# Altium footprint library UbiWatch_PcbLib.PcbLib: 22 footprints (part 2 of 2)
Each footprint in its own frame and in the unit in brackets; x right, y up, seen from the top. Pads: shape width x height; smd on the part's side, far side on the other; paste and mask are expansions set on the pad; w line width, h text height; cw(c..) or ccw(c..) is an arc to the next point about the centre after c.
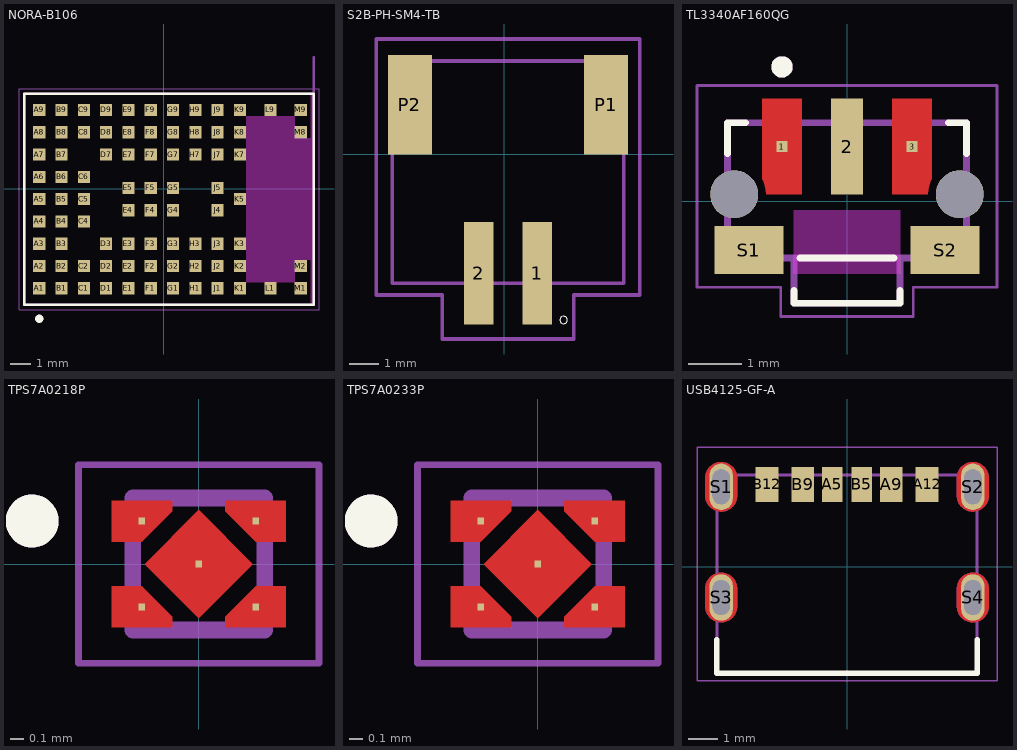
[diagram p1: the footprints below, top view; thin cyan lines are the x and y axes]

## NORA-B106 [mm]
pads (82):
  rect 0.6x0.6 smd paste+0 mask+0.102: A1(-6.146,-4.908) A2(-6.146,-3.808) A3(-6.146,-2.708) A4(-6.146,-1.608) A5(-6.146,-0.508) A6(-6.146,0.592) A7(-6.146,1.692) A8(-6.146,2.792) A9(-6.146,3.892) B1(-5.046,-4.908) B2(-5.046,-3.808) B3(-5.046,-2.708) B4(-5.046,-1.608) B5(-5.046,-0.508) B6(-5.046,0.592) B7(-5.046,1.692) B8(-5.046,2.792) B9(-5.046,3.892) C1(-3.946,-4.908) C2(-3.946,-3.808) C4(-3.946,-1.608) C5(-3.946,-0.508) C6(-3.946,0.592) C8(-3.946,2.792) C9(-3.946,3.892) D1(-2.846,-4.908) D2(-2.846,-3.808) D3(-2.846,-2.708) D7(-2.846,1.692) D8(-2.846,2.792) D9(-2.846,3.892) E1(-1.746,-4.908) E2(-1.746,-3.808) E3(-1.746,-2.708) E4(-1.746,-1.058) E5(-1.746,0.042) E7(-1.746,1.692) E8(-1.746,2.792) E9(-1.746,3.892) F1(-0.646,-4.908) F2(-0.646,-3.808) F3(-0.646,-2.708) F4(-0.646,-1.058) F5(-0.646,0.042) F7(-0.646,1.692) F8(-0.646,2.792) F9(-0.646,3.892) G1(0.454,-4.908) G2(0.454,-3.808) G3(0.454,-2.708) G4(0.454,-1.058) G5(0.454,0.042) G7(0.454,1.692) G8(0.454,2.792) G9(0.454,3.892) H1(1.554,-4.908) H2(1.554,-3.808) H3(1.554,-2.708) H7(1.554,1.692) H8(1.554,2.792) H9(1.554,3.892) J1(2.654,-4.908) J2(2.654,-3.808) J3(2.654,-2.708) J4(2.654,-1.058) J5(2.654,0.042) J7(2.654,1.692) J8(2.654,2.792) J9(2.654,3.892) K1(3.754,-4.908) K2(3.754,-3.808) K3(3.754,-2.708) K5(3.754,-0.508) K7(3.754,1.692) K8(3.754,2.792) K9(3.754,3.892) L1(5.254,-4.908) L9(5.254,3.892) M1(6.754,-4.908) M2(6.754,-3.808) M8(6.754,2.792) M9(6.754,3.892)
Top Overlay:
  circle w0.2: c-6.146,-6.408 r0.1
  lines w0.127: -6.896,-5.708 -6.896,4.692 7.404,4.692 7.404,-5.708 -6.896,-5.708
Keep-Out Layer:
  region: 7.404,-5.708 7.254,-5.708 7.254,-3.508 6.454,-3.508 6.454,-4.608 4.054,-4.608 4.054,3.592 6.454,3.592 6.454,2.492 7.254,2.492 7.254,4.692 7.404,4.692
  region: 7.404,-5.708 7.254,-5.708 7.254,-3.508 6.454,-3.508 6.454,-4.608 4.054,-4.608 4.054,3.592 6.454,3.592 6.454,2.492 7.254,2.492 7.254,4.692 7.404,4.692
Mechanical 13:
  circle w0.2: c-6.146,-6.408 r0.1
  lines w0.127: 7.404,6.492 7.404,4.692 ; 7.404,4.692 -6.896,4.692 -6.896,-5.708 7.404,-5.708 7.404,4.692
  text "PCB Edge" at 7.104,5.492 h0.61
Mechanical 15:
  lines w0.05: -7.146,-5.958 -7.146,4.942 7.654,4.942 7.654,-5.958 -7.146,-5.958
3D body "step_temp.STEP": height 1.8, standoff 0, extent -6.896,-5.708 7.404,4.692

## S2B-PH-SM4-TB [mm]
pads (4):
  rect 1x3.5 smd: 1(1.127,-4.064) 2(-0.873,-4.064)
  rect 1.5x3.4 smd: P1(3.477,1.686) P2(-3.223,1.686)
Top Overlay:
  circle w0: c2.027,-5.664 r0.127
Mechanical 13:
  lines w0.127: -3.823,-4.414 4.077,-4.414 4.077,3.186 -3.823,3.186 -3.823,-4.414
Mechanical 15:
  lines w0.127: -4.373,-4.814 -2.123,-4.814 -2.123,-6.314 2.377,-6.314 2.377,-4.814 4.627,-4.814 4.627,3.936 -4.373,3.936 -4.373,-4.814
3D body "step_temp.STEP": height 5.5, standoff -0.1, extent -3.823,-4.064 4.077,4.536

## TL3340AF160QG [mm]
pads (7):
  rect 0.2x0.2 smd paste-1 mask+0: 1(-1.225,1.027) 3(1.225,1.027)
  rect 0.6x1.8 smd: 2(0,1.027)
  rect 1.3x0.9 smd: S1(-1.85,-0.923) S2(1.85,-0.923)
  round 0.9 hole 0.9 unplated: ""(-2.125,0.127) ""(2.125,0.127)
Top Layer:
  region: -0.85,0.127 -1.525,0.127 -1.525,0.136 -1.525,0.154 -1.526,0.172 -1.529,0.19 -1.53,0.198 -1.531,0.207 -1.533,0.225 -1.536,0.243 -1.54,0.261 -1.543,0.27 -1.545,0.28 -1.551,0.302 -1.557,0.323 -1.565,0.344 -1.569,0.354 -1.572,0.363 -1.579,0.379 -1.587,0.395 -1.595,0.41 -1.6,0.417 -1.6,0.427 -1.6,1.927 -0.85,1.927
  region: 1.6,0.427 1.6,0.417 1.595,0.41 1.587,0.395 1.579,0.379 1.572,0.363 1.569,0.354 1.565,0.344 1.557,0.323 1.551,0.302 1.545,0.28 1.543,0.27 1.54,0.261 1.536,0.243 1.533,0.225 1.531,0.207 1.53,0.198 1.529,0.19 1.526,0.172 1.525,0.154 1.525,0.136 1.525,0.127 0.85,0.127 0.85,1.927 1.6,1.927
Top Overlay:
  circle w0.2: c-1.225,2.527 r0.1
  lines w0.127: -2.25,0.891 -2.25,1.477 -1.913,1.477 ; -1,-1.686 -1,-1.923 1,-1.923 1,-1.686 ; -0.887,-1.073 0.887,-1.073 ; 1.913,1.477 2.25,1.477 2.25,0.891
Top Paste:
  region: -0.85,0.127 -1.525,0.127 -1.525,0.136 -1.525,0.154 -1.526,0.172 -1.529,0.19 -1.53,0.198 -1.531,0.207 -1.533,0.225 -1.536,0.243 -1.54,0.261 -1.543,0.27 -1.545,0.28 -1.551,0.302 -1.557,0.323 -1.565,0.344 -1.569,0.354 -1.572,0.363 -1.579,0.379 -1.587,0.395 -1.595,0.41 -1.6,0.417 -1.6,0.427 -1.6,1.927 -0.85,1.927
  region: 1.6,0.427 1.6,0.417 1.595,0.41 1.587,0.395 1.579,0.379 1.572,0.363 1.569,0.354 1.565,0.344 1.557,0.323 1.551,0.302 1.545,0.28 1.543,0.27 1.54,0.261 1.536,0.243 1.533,0.225 1.531,0.207 1.53,0.198 1.529,0.19 1.526,0.172 1.525,0.154 1.525,0.136 1.525,0.127 0.85,0.127 0.85,1.927 1.6,1.927
Top Solder:
  region: 1.7,0.55 1.677,0.524 1.635,0.469 1.599,0.409 1.569,0.346 1.556,0.314 1.553,0.305 1.549,0.287 1.544,0.269 1.54,0.25 1.539,0.241 1.537,0.232 1.534,0.213 1.531,0.194 1.529,0.175 1.528,0.166 1.527,0.148 1.527,0.114 1.528,0.079 1.531,0.044 1.533,0.027 0.75,0.027 0.75,2.027 1.7,2.027
  region: -0.75,0.027 -1.533,0.027 -1.531,0.044 -1.528,0.079 -1.527,0.114 -1.527,0.148 -1.528,0.166 -1.529,0.175 -1.531,0.194 -1.534,0.213 -1.537,0.232 -1.539,0.241 -1.54,0.25 -1.544,0.269 -1.549,0.287 -1.553,0.305 -1.556,0.314 -1.569,0.346 -1.599,0.409 -1.635,0.469 -1.677,0.524 -1.7,0.55 -1.7,2.027 -0.75,2.027
Keep-Out Layer:
  region: 1,-1.373 -1,-1.373 -1,-0.173 1,-0.173
Mechanical 13:
  circle w0.2: c-1.225,2.527 r0.1
  lines w0.127: -1,-1.073 -2.25,-1.073 -2.25,1.477 2.25,1.477 2.25,-1.073 1,-1.073 ; -1,-1.073 1,-1.073 ; -1,-1.073 -1,-1.923 1,-1.923 1,-1.073
Mechanical 15:
  lines w0.05: -2.825,-1.623 -1.25,-1.623 -1.25,-2.173 1.25,-2.173 1.25,-1.623 2.825,-1.623 2.825,2.177 -2.825,2.177 -2.825,-1.623
3D body "step_temp.STEP": height 3.3, standoff -0.46, extent -2.25,-1.923 2.25,1.742

## TPS7A0218P [mm]
pads (5):
  rect 0.05x0.05 smd paste-1 mask+0: 1(-0.43,0.325) 2(-0.43,-0.325) 3(0.43,-0.325) 4(0.43,0.325) 5(0,0)
Top Layer:
  region: -0.2,0.4 -0.43,0.17 -0.66,0.17 -0.66,0.48 -0.2,0.48
  region: 0.66,-0.48 0.2,-0.48 0.2,-0.4 0.43,-0.17 0.66,-0.17
  region: 0.66,0.17 0.43,0.17 0.2,0.4 0.2,0.48 0.66,0.48
  region: -0.2,-0.4 -0.2,-0.48 -0.66,-0.48 -0.66,-0.17 -0.43,-0.17
  region: 0.41,0 0,-0.41 -0.41,0 0,0.41
Top Overlay:
  circle w0.2: c-1.26,0.325 r0.1
Top Paste:
  region: 0.65,0.22 0.43,0.22 0.25,0.4 0.25,0.43 0.65,0.43
  region: 0.65,-0.43 0.25,-0.43 0.25,-0.4 0.43,-0.22 0.65,-0.22
  region: -0.25,0.4 -0.43,0.22 -0.65,0.22 -0.65,0.43 -0.25,0.43
  region: -0.25,-0.4 -0.25,-0.43 -0.65,-0.43 -0.65,-0.22 -0.43,-0.22
  region: 0.318,0 0,-0.318 -0.318,0 0,0.318
Top Solder:
  region: -0.25,0.4 -0.43,0.22 -0.61,0.22 -0.61,0.43 -0.25,0.43
  region: 0.61,-0.43 0.25,-0.43 0.25,-0.4 0.43,-0.22 0.61,-0.22
  region: 0.61,0.22 0.43,0.22 0.25,0.4 0.25,0.43 0.61,0.43
  region: -0.25,-0.4 -0.25,-0.43 -0.61,-0.43 -0.61,-0.22 -0.43,-0.22
  region: 0.339,0 0,-0.339 -0.339,0 0,0.339
Mechanical 13:
  circle w0.2: c-1.26,0.325 r0.1
  lines w0.127: -0.5,-0.5 0.5,-0.5 0.5,0.5 -0.5,0.5 -0.5,-0.5
Mechanical 15:
  lines w0.05: -0.91,-0.75 0.91,-0.75 0.91,0.75 -0.91,0.75 -0.91,-0.75
3D body "step_temp.STEP": height 0.4, standoff 0, extent -0.5,-0.5 0.5,0.5

## TPS7A0233P [mm]
pads (5):
  rect 0.05x0.05 smd paste-1 mask+0: 1(-0.43,0.325) 2(-0.43,-0.325) 3(0.43,-0.325) 4(0.43,0.325) 5(0,0)
Top Layer:
  region: -0.2,0.4 -0.43,0.17 -0.66,0.17 -0.66,0.48 -0.2,0.48
  region: 0.66,-0.48 0.2,-0.48 0.2,-0.4 0.43,-0.17 0.66,-0.17
  region: 0.66,0.17 0.43,0.17 0.2,0.4 0.2,0.48 0.66,0.48
  region: -0.2,-0.4 -0.2,-0.48 -0.66,-0.48 -0.66,-0.17 -0.43,-0.17
  region: 0.41,0 0,-0.41 -0.41,0 0,0.41
Top Overlay:
  circle w0.2: c-1.26,0.325 r0.1
Top Paste:
  region: 0.65,0.22 0.43,0.22 0.25,0.4 0.25,0.43 0.65,0.43
  region: 0.65,-0.43 0.25,-0.43 0.25,-0.4 0.43,-0.22 0.65,-0.22
  region: -0.25,0.4 -0.43,0.22 -0.65,0.22 -0.65,0.43 -0.25,0.43
  region: -0.25,-0.4 -0.25,-0.43 -0.65,-0.43 -0.65,-0.22 -0.43,-0.22
  region: 0.318,0 0,-0.318 -0.318,0 0,0.318
Top Solder:
  region: -0.25,0.4 -0.43,0.22 -0.61,0.22 -0.61,0.43 -0.25,0.43
  region: 0.61,-0.43 0.25,-0.43 0.25,-0.4 0.43,-0.22 0.61,-0.22
  region: 0.61,0.22 0.43,0.22 0.25,0.4 0.25,0.43 0.61,0.43
  region: -0.25,-0.4 -0.25,-0.43 -0.61,-0.43 -0.61,-0.22 -0.43,-0.22
  region: 0.339,0 0,-0.339 -0.339,0 0,0.339
Mechanical 13:
  circle w0.2: c-1.26,0.325 r0.1
  lines w0.127: -0.5,-0.5 0.5,-0.5 0.5,0.5 -0.5,0.5 -0.5,-0.5
Mechanical 15:
  lines w0.05: -0.91,-0.75 0.91,-0.75 0.91,0.75 -0.91,0.75 -0.91,-0.75
3D body "step_temp.STEP": height 0.4, standoff 0, extent -0.5,-0.5 0.5,0.5

## USB4125-GF-A [mm]
pads (10):
  rect 0.7x1.2 smd: A5(-0.5,2.826) B5(0.5,2.826)
  rect 0.76x1.2 smd: A9(1.52,2.826) B9(-1.52,2.826)
  rect 0.8x1.2 smd: A12(2.75,2.826) B12(-2.75,2.826)
  oval 0.8x1.6 hole 0.6 slot 1.2 at 90 deg mask+0: S1(-4.32,2.746) S2(4.32,2.746) S3(-4.32,-1.054) S4(4.32,-1.054)
Top Layer:
  region: -4.291,-0.205 -4.263,-0.207 -4.234,-0.211 -4.206,-0.216 -4.178,-0.223 -4.15,-0.231 -4.123,-0.241 -4.096,-0.252 -4.07,-0.264 -4.045,-0.278 -4.02,-0.293 -3.997,-0.309 -3.974,-0.327 -3.952,-0.345 -3.931,-0.365 -3.911,-0.386 -3.893,-0.408 -3.875,-0.431 -3.859,-0.454 -3.844,-0.479 -3.83,-0.504 -3.818,-0.53 -3.807,-0.557 -3.797,-0.584 -3.789,-0.612 -3.782,-0.64 -3.777,-0.668 -3.773,-0.697 -3.771,-0.725 -3.77,-0.754 -3.77,-1.354 -3.771,-1.383 -3.773,-1.411 -3.777,-1.44 -3.782,-1.468 -3.789,-1.496 -3.797,-1.524 -3.807,-1.551 -3.818,-1.578 -3.83,-1.604 -3.844,-1.629 -3.859,-1.654 -3.875,-1.677 -3.893,-1.7 -3.911,-1.722 -3.931,-1.743 -3.952,-1.763 -3.974,-1.781 -3.997,-1.799 -4.02,-1.815 -4.045,-1.83 -4.07,-1.844 -4.096,-1.856 -4.123,-1.867 -4.15,-1.877 -4.178,-1.885 -4.206,-1.892 -4.234,-1.897 -4.263,-1.901 -4.291,-1.903 -4.32,-1.904 -4.349,-1.903 -4.377,-1.901 -4.406,-1.897 -4.434,-1.892 -4.462,-1.885 -4.49,-1.877 -4.517,-1.867 -4.544,-1.856 -4.57,-1.844 -4.595,-1.83 -4.62,-1.815 -4.643,-1.799 -4.666,-1.781 -4.688,-1.763 -4.709,-1.743 -4.729,-1.722 -4.747,-1.7 -4.765,-1.677 -4.781,-1.654 -4.796,-1.629 -4.81,-1.604 -4.822,-1.578 -4.833,-1.551 -4.843,-1.524 -4.851,-1.496 -4.858,-1.468 -4.863,-1.44 -4.867,-1.411 -4.869,-1.383 -4.87,-1.354 -4.87,-0.754 -4.869,-0.725 -4.867,-0.697 -4.863,-0.668 -4.858,-0.64 -4.851,-0.612 -4.843,-0.584 -4.833,-0.557 -4.822,-0.53 -4.81,-0.504 -4.796,-0.479 -4.781,-0.454 -4.765,-0.431 -4.747,-0.408 -4.729,-0.386 -4.709,-0.365 -4.688,-0.345 -4.666,-0.327 -4.643,-0.309 -4.62,-0.293 -4.595,-0.278 -4.57,-0.264 -4.544,-0.252 -4.517,-0.241 -4.49,-0.231 -4.462,-0.223 -4.434,-0.216 -4.406,-0.211 -4.377,-0.207 -4.349,-0.205 -4.32,-0.204
  region: 4.349,-0.205 4.377,-0.207 4.406,-0.211 4.434,-0.216 4.462,-0.223 4.49,-0.231 4.517,-0.241 4.544,-0.252 4.57,-0.264 4.595,-0.278 4.62,-0.293 4.643,-0.309 4.666,-0.327 4.688,-0.345 4.709,-0.365 4.729,-0.386 4.747,-0.408 4.765,-0.431 4.781,-0.454 4.796,-0.479 4.81,-0.504 4.822,-0.53 4.833,-0.557 4.843,-0.584 4.851,-0.612 4.858,-0.64 4.863,-0.668 4.867,-0.697 4.869,-0.725 4.87,-0.754 4.87,-1.354 4.869,-1.383 4.867,-1.411 4.863,-1.44 4.858,-1.468 4.851,-1.496 4.843,-1.524 4.833,-1.551 4.822,-1.578 4.81,-1.604 4.796,-1.629 4.781,-1.654 4.765,-1.677 4.747,-1.7 4.729,-1.722 4.709,-1.743 4.688,-1.763 4.666,-1.781 4.643,-1.799 4.62,-1.815 4.595,-1.83 4.57,-1.844 4.544,-1.856 4.517,-1.867 4.49,-1.877 4.462,-1.885 4.434,-1.892 4.406,-1.897 4.377,-1.901 4.349,-1.903 4.32,-1.904 4.291,-1.903 4.263,-1.901 4.234,-1.897 4.206,-1.892 4.178,-1.885 4.15,-1.877 4.123,-1.867 4.096,-1.856 4.07,-1.844 4.045,-1.83 4.02,-1.815 3.997,-1.799 3.974,-1.781 3.952,-1.763 3.931,-1.743 3.911,-1.722 3.893,-1.7 3.875,-1.677 3.859,-1.654 3.844,-1.629 3.83,-1.604 3.818,-1.578 3.807,-1.551 3.797,-1.524 3.789,-1.496 3.782,-1.468 3.777,-1.44 3.773,-1.411 3.771,-1.383 3.77,-1.354 3.77,-0.754 3.771,-0.725 3.773,-0.697 3.777,-0.668 3.782,-0.64 3.789,-0.612 3.797,-0.584 3.807,-0.557 3.818,-0.53 3.83,-0.504 3.844,-0.479 3.859,-0.454 3.875,-0.431 3.893,-0.408 3.911,-0.386 3.931,-0.365 3.952,-0.345 3.974,-0.327 3.997,-0.309 4.02,-0.293 4.045,-0.278 4.07,-0.264 4.096,-0.252 4.123,-0.241 4.15,-0.231 4.178,-0.223 4.206,-0.216 4.234,-0.211 4.263,-0.207 4.291,-0.205 4.32,-0.204
  region: -4.291,3.595 -4.263,3.593 -4.234,3.589 -4.206,3.584 -4.178,3.577 -4.15,3.569 -4.123,3.559 -4.096,3.548 -4.07,3.536 -4.045,3.522 -4.02,3.507 -3.997,3.491 -3.974,3.473 -3.952,3.455 -3.931,3.435 -3.911,3.414 -3.893,3.392 -3.875,3.369 -3.859,3.346 -3.844,3.321 -3.83,3.296 -3.818,3.27 -3.807,3.243 -3.797,3.216 -3.789,3.188 -3.782,3.16 -3.777,3.132 -3.773,3.103 -3.771,3.075 -3.77,3.046 -3.77,2.446 -3.771,2.417 -3.773,2.389 -3.777,2.36 -3.782,2.332 -3.789,2.304 -3.797,2.276 -3.807,2.249 -3.818,2.222 -3.83,2.196 -3.844,2.171 -3.859,2.146 -3.875,2.123 -3.893,2.1 -3.911,2.078 -3.931,2.057 -3.952,2.037 -3.974,2.019 -3.997,2.001 -4.02,1.985 -4.045,1.97 -4.07,1.956 -4.096,1.944 -4.123,1.933 -4.15,1.923 -4.178,1.915 -4.206,1.908 -4.234,1.903 -4.263,1.899 -4.291,1.897 -4.32,1.896 -4.349,1.897 -4.377,1.899 -4.406,1.903 -4.434,1.908 -4.462,1.915 -4.49,1.923 -4.517,1.933 -4.544,1.944 -4.57,1.956 -4.595,1.97 -4.62,1.985 -4.643,2.001 -4.666,2.019 -4.688,2.037 -4.709,2.057 -4.729,2.078 -4.747,2.1 -4.765,2.123 -4.781,2.146 -4.796,2.171 -4.81,2.196 -4.822,2.222 -4.833,2.249 -4.843,2.276 -4.851,2.304 -4.858,2.332 -4.863,2.36 -4.867,2.389 -4.869,2.417 -4.87,2.446 -4.87,3.046 -4.869,3.075 -4.867,3.103 -4.863,3.132 -4.858,3.16 -4.851,3.188 -4.843,3.216 -4.833,3.243 -4.822,3.27 -4.81,3.296 -4.796,3.321 -4.781,3.346 -4.765,3.369 -4.747,3.392 -4.729,3.414 -4.709,3.435 -4.688,3.455 -4.666,3.473 -4.643,3.491 -4.62,3.507 -4.595,3.522 -4.57,3.536 -4.544,3.548 -4.517,3.559 -4.49,3.569 -4.462,3.577 -4.434,3.584 -4.406,3.589 -4.377,3.593 -4.349,3.595 -4.32,3.596
  region: 4.349,3.595 4.377,3.593 4.406,3.589 4.434,3.584 4.462,3.577 4.49,3.569 4.517,3.559 4.544,3.548 4.57,3.536 4.595,3.522 4.62,3.507 4.643,3.491 4.666,3.473 4.688,3.455 4.709,3.435 4.729,3.414 4.747,3.392 4.765,3.369 4.781,3.346 4.796,3.321 4.81,3.296 4.822,3.27 4.833,3.243 4.843,3.216 4.851,3.188 4.858,3.16 4.863,3.132 4.867,3.103 4.869,3.075 4.87,3.046 4.87,2.446 4.869,2.417 4.867,2.389 4.863,2.36 4.858,2.332 4.851,2.304 4.843,2.276 4.833,2.249 4.822,2.222 4.81,2.196 4.796,2.171 4.781,2.146 4.765,2.123 4.747,2.1 4.729,2.078 4.709,2.057 4.688,2.037 4.666,2.019 4.643,2.001 4.62,1.985 4.595,1.97 4.57,1.956 4.544,1.944 4.517,1.933 4.49,1.923 4.462,1.915 4.434,1.908 4.406,1.903 4.377,1.899 4.349,1.897 4.32,1.896 4.291,1.897 4.263,1.899 4.234,1.903 4.206,1.908 4.178,1.915 4.15,1.923 4.123,1.933 4.096,1.944 4.07,1.956 4.045,1.97 4.02,1.985 3.997,2.001 3.974,2.019 3.952,2.037 3.931,2.057 3.911,2.078 3.893,2.1 3.875,2.123 3.859,2.146 3.844,2.171 3.83,2.196 3.818,2.222 3.807,2.249 3.797,2.276 3.789,2.304 3.782,2.332 3.777,2.36 3.773,2.389 3.771,2.417 3.77,2.446 3.77,3.046 3.771,3.075 3.773,3.103 3.777,3.132 3.782,3.16 3.789,3.188 3.797,3.216 3.807,3.243 3.818,3.27 3.83,3.296 3.844,3.321 3.859,3.346 3.875,3.369 3.893,3.392 3.911,3.414 3.931,3.435 3.952,3.455 3.974,3.473 3.997,3.491 4.02,3.507 4.045,3.522 4.07,3.536 4.096,3.548 4.123,3.559 4.15,3.569 4.178,3.577 4.206,3.584 4.234,3.589 4.263,3.593 4.291,3.595 4.32,3.596
Bottom Layer:
  region: -4.291,-0.205 -4.263,-0.207 -4.234,-0.211 -4.206,-0.216 -4.178,-0.223 -4.15,-0.231 -4.123,-0.241 -4.096,-0.252 -4.07,-0.264 -4.045,-0.278 -4.02,-0.293 -3.997,-0.309 -3.974,-0.327 -3.952,-0.345 -3.931,-0.365 -3.911,-0.386 -3.893,-0.408 -3.875,-0.431 -3.859,-0.454 -3.844,-0.479 -3.83,-0.504 -3.818,-0.53 -3.807,-0.557 -3.797,-0.584 -3.789,-0.612 -3.782,-0.64 -3.777,-0.668 -3.773,-0.697 -3.771,-0.725 -3.77,-0.754 -3.77,-1.354 -3.771,-1.383 -3.773,-1.411 -3.777,-1.44 -3.782,-1.468 -3.789,-1.496 -3.797,-1.524 -3.807,-1.551 -3.818,-1.578 -3.83,-1.604 -3.844,-1.629 -3.859,-1.654 -3.875,-1.677 -3.893,-1.7 -3.911,-1.722 -3.931,-1.743 -3.952,-1.763 -3.974,-1.781 -3.997,-1.799 -4.02,-1.815 -4.045,-1.83 -4.07,-1.844 -4.096,-1.856 -4.123,-1.867 -4.15,-1.877 -4.178,-1.885 -4.206,-1.892 -4.234,-1.897 -4.263,-1.901 -4.291,-1.903 -4.32,-1.904 -4.349,-1.903 -4.377,-1.901 -4.406,-1.897 -4.434,-1.892 -4.462,-1.885 -4.49,-1.877 -4.517,-1.867 -4.544,-1.856 -4.57,-1.844 -4.595,-1.83 -4.62,-1.815 -4.643,-1.799 -4.666,-1.781 -4.688,-1.763 -4.709,-1.743 -4.729,-1.722 -4.747,-1.7 -4.765,-1.677 -4.781,-1.654 -4.796,-1.629 -4.81,-1.604 -4.822,-1.578 -4.833,-1.551 -4.843,-1.524 -4.851,-1.496 -4.858,-1.468 -4.863,-1.44 -4.867,-1.411 -4.869,-1.383 -4.87,-1.354 -4.87,-0.754 -4.869,-0.725 -4.867,-0.697 -4.863,-0.668 -4.858,-0.64 -4.851,-0.612 -4.843,-0.584 -4.833,-0.557 -4.822,-0.53 -4.81,-0.504 -4.796,-0.479 -4.781,-0.454 -4.765,-0.431 -4.747,-0.408 -4.729,-0.386 -4.709,-0.365 -4.688,-0.345 -4.666,-0.327 -4.643,-0.309 -4.62,-0.293 -4.595,-0.278 -4.57,-0.264 -4.544,-0.252 -4.517,-0.241 -4.49,-0.231 -4.462,-0.223 -4.434,-0.216 -4.406,-0.211 -4.377,-0.207 -4.349,-0.205 -4.32,-0.204
  region: 4.349,-0.205 4.377,-0.207 4.406,-0.211 4.434,-0.216 4.462,-0.223 4.49,-0.231 4.517,-0.241 4.544,-0.252 4.57,-0.264 4.595,-0.278 4.62,-0.293 4.643,-0.309 4.666,-0.327 4.688,-0.345 4.709,-0.365 4.729,-0.386 4.747,-0.408 4.765,-0.431 4.781,-0.454 4.796,-0.479 4.81,-0.504 4.822,-0.53 4.833,-0.557 4.843,-0.584 4.851,-0.612 4.858,-0.64 4.863,-0.668 4.867,-0.697 4.869,-0.725 4.87,-0.754 4.87,-1.354 4.869,-1.383 4.867,-1.411 4.863,-1.44 4.858,-1.468 4.851,-1.496 4.843,-1.524 4.833,-1.551 4.822,-1.578 4.81,-1.604 4.796,-1.629 4.781,-1.654 4.765,-1.677 4.747,-1.7 4.729,-1.722 4.709,-1.743 4.688,-1.763 4.666,-1.781 4.643,-1.799 4.62,-1.815 4.595,-1.83 4.57,-1.844 4.544,-1.856 4.517,-1.867 4.49,-1.877 4.462,-1.885 4.434,-1.892 4.406,-1.897 4.377,-1.901 4.349,-1.903 4.32,-1.904 4.291,-1.903 4.263,-1.901 4.234,-1.897 4.206,-1.892 4.178,-1.885 4.15,-1.877 4.123,-1.867 4.096,-1.856 4.07,-1.844 4.045,-1.83 4.02,-1.815 3.997,-1.799 3.974,-1.781 3.952,-1.763 3.931,-1.743 3.911,-1.722 3.893,-1.7 3.875,-1.677 3.859,-1.654 3.844,-1.629 3.83,-1.604 3.818,-1.578 3.807,-1.551 3.797,-1.524 3.789,-1.496 3.782,-1.468 3.777,-1.44 3.773,-1.411 3.771,-1.383 3.77,-1.354 3.77,-0.754 3.771,-0.725 3.773,-0.697 3.777,-0.668 3.782,-0.64 3.789,-0.612 3.797,-0.584 3.807,-0.557 3.818,-0.53 3.83,-0.504 3.844,-0.479 3.859,-0.454 3.875,-0.431 3.893,-0.408 3.911,-0.386 3.931,-0.365 3.952,-0.345 3.974,-0.327 3.997,-0.309 4.02,-0.293 4.045,-0.278 4.07,-0.264 4.096,-0.252 4.123,-0.241 4.15,-0.231 4.178,-0.223 4.206,-0.216 4.234,-0.211 4.263,-0.207 4.291,-0.205 4.32,-0.204
  region: -4.291,3.595 -4.263,3.593 -4.234,3.589 -4.206,3.584 -4.178,3.577 -4.15,3.569 -4.123,3.559 -4.096,3.548 -4.07,3.536 -4.045,3.522 -4.02,3.507 -3.997,3.491 -3.974,3.473 -3.952,3.455 -3.931,3.435 -3.911,3.414 -3.893,3.392 -3.875,3.369 -3.859,3.346 -3.844,3.321 -3.83,3.296 -3.818,3.27 -3.807,3.243 -3.797,3.216 -3.789,3.188 -3.782,3.16 -3.777,3.132 -3.773,3.103 -3.771,3.075 -3.77,3.046 -3.77,2.446 -3.771,2.417 -3.773,2.389 -3.777,2.36 -3.782,2.332 -3.789,2.304 -3.797,2.276 -3.807,2.249 -3.818,2.222 -3.83,2.196 -3.844,2.171 -3.859,2.146 -3.875,2.123 -3.893,2.1 -3.911,2.078 -3.931,2.057 -3.952,2.037 -3.974,2.019 -3.997,2.001 -4.02,1.985 -4.045,1.97 -4.07,1.956 -4.096,1.944 -4.123,1.933 -4.15,1.923 -4.178,1.915 -4.206,1.908 -4.234,1.903 -4.263,1.899 -4.291,1.897 -4.32,1.896 -4.349,1.897 -4.377,1.899 -4.406,1.903 -4.434,1.908 -4.462,1.915 -4.49,1.923 -4.517,1.933 -4.544,1.944 -4.57,1.956 -4.595,1.97 -4.62,1.985 -4.643,2.001 -4.666,2.019 -4.688,2.037 -4.709,2.057 -4.729,2.078 -4.747,2.1 -4.765,2.123 -4.781,2.146 -4.796,2.171 -4.81,2.196 -4.822,2.222 -4.833,2.249 -4.843,2.276 -4.851,2.304 -4.858,2.332 -4.863,2.36 -4.867,2.389 -4.869,2.417 -4.87,2.446 -4.87,3.046 -4.869,3.075 -4.867,3.103 -4.863,3.132 -4.858,3.16 -4.851,3.188 -4.843,3.216 -4.833,3.243 -4.822,3.27 -4.81,3.296 -4.796,3.321 -4.781,3.346 -4.765,3.369 -4.747,3.392 -4.729,3.414 -4.709,3.435 -4.688,3.455 -4.666,3.473 -4.643,3.491 -4.62,3.507 -4.595,3.522 -4.57,3.536 -4.544,3.548 -4.517,3.559 -4.49,3.569 -4.462,3.577 -4.434,3.584 -4.406,3.589 -4.377,3.593 -4.349,3.595 -4.32,3.596
  region: 4.349,3.595 4.377,3.593 4.406,3.589 4.434,3.584 4.462,3.577 4.49,3.569 4.517,3.559 4.544,3.548 4.57,3.536 4.595,3.522 4.62,3.507 4.643,3.491 4.666,3.473 4.688,3.455 4.709,3.435 4.729,3.414 4.747,3.392 4.765,3.369 4.781,3.346 4.796,3.321 4.81,3.296 4.822,3.27 4.833,3.243 4.843,3.216 4.851,3.188 4.858,3.16 4.863,3.132 4.867,3.103 4.869,3.075 4.87,3.046 4.87,2.446 4.869,2.417 4.867,2.389 4.863,2.36 4.858,2.332 4.851,2.304 4.843,2.276 4.833,2.249 4.822,2.222 4.81,2.196 4.796,2.171 4.781,2.146 4.765,2.123 4.747,2.1 4.729,2.078 4.709,2.057 4.688,2.037 4.666,2.019 4.643,2.001 4.62,1.985 4.595,1.97 4.57,1.956 4.544,1.944 4.517,1.933 4.49,1.923 4.462,1.915 4.434,1.908 4.406,1.903 4.377,1.899 4.349,1.897 4.32,1.896 4.291,1.897 4.263,1.899 4.234,1.903 4.206,1.908 4.178,1.915 4.15,1.923 4.123,1.933 4.096,1.944 4.07,1.956 4.045,1.97 4.02,1.985 3.997,2.001 3.974,2.019 3.952,2.037 3.931,2.057 3.911,2.078 3.893,2.1 3.875,2.123 3.859,2.146 3.844,2.171 3.83,2.196 3.818,2.222 3.807,2.249 3.797,2.276 3.789,2.304 3.782,2.332 3.777,2.36 3.773,2.389 3.771,2.417 3.77,2.446 3.77,3.046 3.771,3.075 3.773,3.103 3.777,3.132 3.782,3.16 3.789,3.188 3.797,3.216 3.807,3.243 3.818,3.27 3.83,3.296 3.844,3.321 3.859,3.346 3.875,3.369 3.893,3.392 3.911,3.414 3.931,3.435 3.952,3.455 3.974,3.473 3.997,3.491 4.02,3.507 4.045,3.522 4.07,3.536 4.096,3.548 4.123,3.559 4.15,3.569 4.178,3.577 4.206,3.584 4.234,3.589 4.263,3.593 4.291,3.595 4.32,3.596
Top Overlay:
  lines w0.2: -4.47,-2.504 -4.47,-3.654 4.47,-3.654 4.47,-2.504
Top Solder:
  drawing of 4 lines, arcs and shapes, not listed
Bottom Solder:
  drawing of 4 lines, arcs and shapes, not listed
Mechanical 13:
  lines w0.1: -4.47,-3.654 4.47,-3.654 4.47,3.146 -4.47,3.146 -4.47,-3.654
Mechanical 15:
  lines w0.05: -5.15,-3.904 5.15,-3.904 5.15,4.096 -5.15,4.096 -5.15,-3.904